# EAGLE library part ADM1085 (library Fugu_LSI)
Simple Sequencers
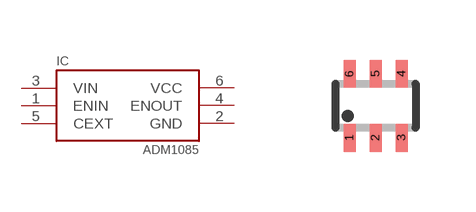
[diagram p7: symbol with the pads of SOT363_INFINEON; footprint SOT363_INFINEON]

Designator prefix IC

## ADM1085  [SOT363_INFINEON]
1  ENIN
2  GND
3  VIN
4  ENOUT
5  CEXT
6  VCC

## Footprint SOT363_INFINEON (pad centres in mm)
Small Outline Transistor; 6 leads Reflow soldering INFINEON, www.infineon.com/cmc_upload/0/000/010/257/eh_db_5b.pdf
smd 0.3 x 0.7: 1 -0.65,-0.8; 2 0,-0.8; 3 0.65,-0.8; 4 0.65,0.8; 5 0,0.8; 6 -0.65,0.8